# Altium schematic symbol library VK_Lib.SchLib: 13 symbols
Pins are listed as number, name and electrical type; pins without a type are passive.

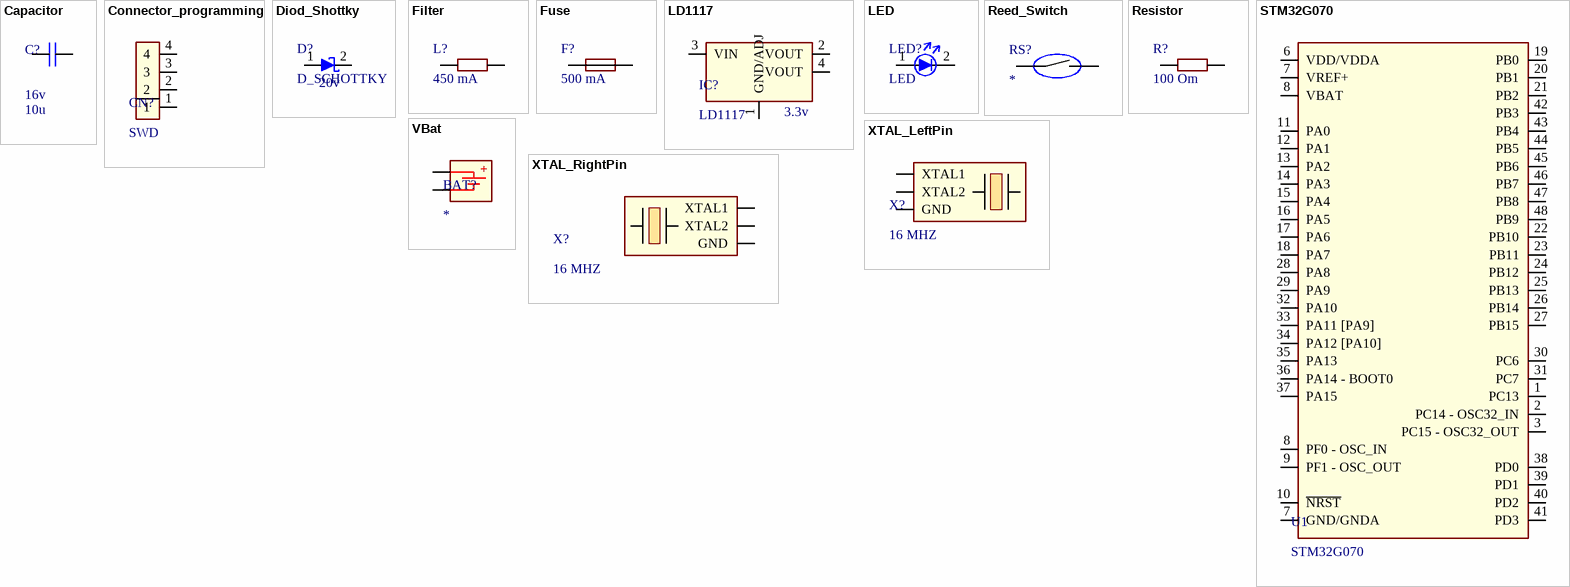
[diagram p0: symbols Capacitor to XTAL_RightPin]

## Capacitor
designator C?  Сapacity: 10u  Voltage: 16v  (hidden comment: *)
footprint Capacitor_smd_0863 (Chip Capacitor, 2-Leads, Body 1,60x0,80mm, IPC Medium Density)
pins: 1, 2

## Connector_programming
designator CN?, comment SWD
footprint Connector_Prog
pins: 1, 2, 3, 4

## Diod_Shottky
designator D?, comment D_SCHOTTKY  Voltage: 20v
footprint Diod_Shottky (SODFL, 2-Leads, Body 1,25x2,50mm, IPC Medium Density)
pins: 1, 2

## Filter
designator L?, comment 450 mA
footprint Resistor_smd_0603 (Chip Resistor, 2-Leads, Body 1,60x0,80mm, IPC Medium Density)
pins: 1, 2

## Fuse
designator F?, comment 500 mA
pins: 1, 2

## LD1117
designator IC?  Voltage: 3.3v
footprint LD1117 (SOT223, 4-Leads, Body 6,50x7,00mm (avg), Pitch 2,30mm, IPC Medium Density)
pins: 1 GND/ADJ, 2 VOUT, 3 VIN, 4 VOUT

## LED
designator LED?
footprint Led_smd_0603_Green
footprint Led_smd_0603_Red
pins: 1, 2

## Reed_Switch
designator RS?
footprint Vbat
pins: 1, 2

## Resistor
designator R?, comment 100 Om
footprint Resistor_smd_0603 (Chip Resistor, 2-Leads, Body 1,60x0,80mm, IPC Medium Density)
pins: 1, 2

## STM32G070
designator U1
footprint STM32G070
pins: 1 PС13, 2 PC14 - OSC32_IN, 3 PC15 - OSC32_OUT, 6 VDD/VDDA (power), 7 GND/GNDA (power), 7 VREF+ (power), 8 PF0 - OSC_IN, 8 VBAT (power), 9 PF1 - OSC_OUT, 10 ~{NRST}, 11 PA0, 12 PA1, 13 PA2, 14 PA3, 15 PA4, 16 PA5, 17 PA6, 18 PA7, 19 PB0, 20 PB1, 21 PB2, 22 PB10, 23 PB11, 24 PB12, 25 PB13, 26 PB14, 27 PB15, 28 PA8, 29 PA9, 30 PС6, 31 PС7, 32 PA10, 33 PA11 [PA9], 34 PA12 [PA10], 35 PA13, 36 PA14 - BOOT0, 37 PA15, 38 PD0, 39 PD1, 40 PD2, 41 PD3, 42 PB3, 43 PB4, 44 PB5, 45 PB6, 46 PB7, 47 PB8, 48 PB9

## VBat
designator BAT?
footprint Vbat
pins: 1 VCC, 2 GND
text: +

## XTAL_LeftPin
designator X?, comment 16 MHZ
pins: 1 XTAL1, 2 XTAL2, 3 GND

## XTAL_RightPin
designator X?, comment 16 MHZ
pins: 1 XTAL1, 2 XTAL2, 3 GND